# Altium footprint library RCDQLY.PCBLIB: 149 footprints (part 3 of 10)
Each footprint in its own frame and in the unit in brackets; x right, y up, seen from the top. Pads: shape width x height; smd on the part's side, far side on the other; paste and mask are expansions set on the pad; w line width, h text height; cw(c..) or ccw(c..) is an arc to the next point about the centre after c.
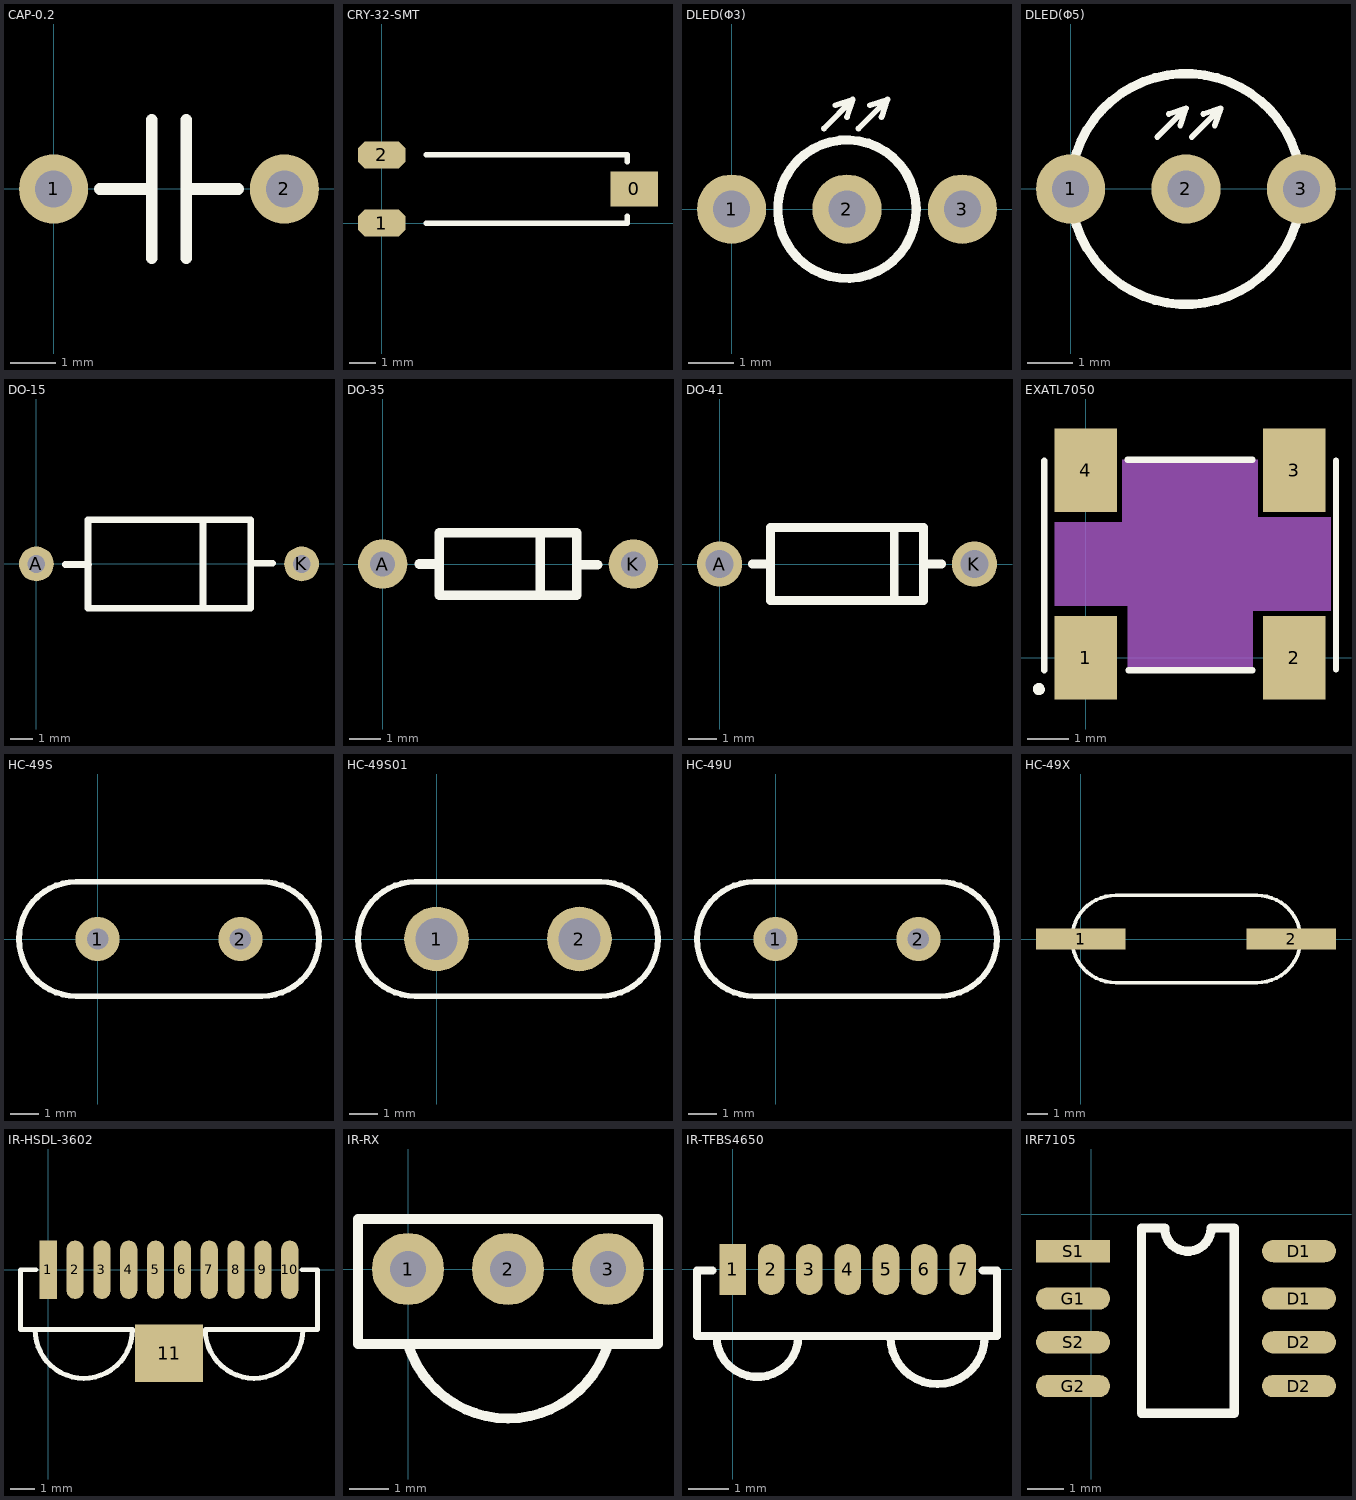
[diagram p2: the footprints below, top view; thin cyan lines are the x and y axes]

## CAP-0.2 [mil]
pads (2):
  round 60 hole 32: 1(0,0) 2(200,0)
TopOverlay:
  lines w10: 40,0 85,0 ; 85,-60 85,60 ; 115,-60 115,60 ; 115,0 160,0

## CRY-32-SMT [mil]
pads (3):
  rect 70x52 smd: 0(370,50)
  oct 70x40 smd: 1(0,0) 2(0,100)
TopOverlay:
  lines w8: 65,0 360,0 360,10 ; 65,100 360,100 360,90

## DLED(Φ3) [mil]
pads (3):
  round 60 hole 32: 1(0,0) 2(100,0) 3(200,0)
TopOverlay:
  circle w8: c100,0 r60
  lines w5: 80,70 105,95 ; 90,90 105,95 ; 100,80 105,95 ; 110,70 135,95 ; 120,90 135,95 ; 130,80 135,95

## DLED(Φ5) [mil]
pads (3):
  round 60 hole 32: 1(0,0) 2(100,0) 3(200,0)
TopOverlay:
  circle w8: c100,0 r100
  lines w5: 75,45 100,70 ; 85,65 100,70 ; 95,55 100,70 ; 105,45 130,70 ; 115,65 130,70 ; 125,55 130,70

## DO-15 [mil]
pads (2):
  round 62 hole 31.5: A(0,0) K(472.44,0)
TopOverlay:
  lines w12: 51.18,-1 93,-1 ; 92,-78.74 381.89,-78.74 ; 92,-78 92,78.48 ; 92,78.74 381.89,78.74 ; 297,-78.74 297,78.74 ; 382,-79 382,78.48 ; 388,1 421.26,1

## DO-35 [mil]
pads (2):
  round 62 hole 31.5: A(0,0) K(314.96,0)
TopOverlay:
  lines w12: 46,0 71,0 ; 198,-39.37 198,39.37 ; 245,-1 270,-1 ; 71,-39.37 244,-39.37 244,39.37 71,39.37 71,-39.37

## DO-41 [mil]
pads (2):
  round 62 hole 38: A(0,0) K(350,0)
TopOverlay:
  lines w12: 45,0 70,0 ; 240,-50 240,50 ; 280,0 305,0 ; 70,-50 70,50 280,50 280,-50 70,-50

## EXATL7050 [mil]
height 52.36
pads (4):
  rect 60x80 smd: 1(0,0) 2(200,0) 3(200,180) 4(0,180)
TopOverlay:
  lines w6: -43,-28 ccw(c-45,-30) -42.17,-30 ; -40,-12 -40,189 ; 40,190 160,190 ; 41,-12 160,-12 ; 240,-11 240,189
Mechanical1:
  pour cut-out: -30,130 -30,50 40,50 40,-11 160,-11 160,45 235,45 235,135 165,135 165,190 35,190 35,130
3D body: height 59.8, standoff 6.69, extent -30,-8 233,184
3D body: height 59.06, standoff 6.69, extent -38,-13 240,190

## HC-49S [mil]
pads (2):
  round 62 hole 30: 1(0,0) 2(200,0)
TopOverlay:
  lines w8: -30,-80 cw(c-30,0) -30,80 230,80 cw(c230,0) 230,-80 -30,-80

## HC-49S01 [mm]
pads (2):
  round 2.3 hole 1.5: 1(0,0) 2(5.08,0)
TopOverlay:
  lines w0.203: -0.762,-2.032 cw(c-0.762,0) -0.762,2.032 5.842,2.032 cw(c5.842,0) 5.842,-2.032 -0.762,-2.032

## HC-49U [mil]
pads (2):
  round 62 hole 30: 1(0,0) 2(200,0)
TopOverlay:
  lines w8: -30,-80 cw(c-30,0) -30,80 230,80 cw(c230,0) 230,-80 -30,-80

## HC-49X [mm]
pads (2):
  rect 4.3x1 smd: 1(0,0) 2(10.135,0)
TopOverlay:
  lines w0.178: 1.68,-2.1 cw(c1.68,0) 1.68,2.1 8.48,2.1 cw(c8.48,0) 8.48,-2.1 1.68,-2.1

## IR-HSDL-3602 [mm]
height 4.064
pads (11):
  rect 0.7x2.4 smd: 1(0,0)
  oval 0.7x2.4 smd: 2(1.1,0) 3(2.2,0) 4(3.3,0) 5(4.4,0) 6(5.5,0) 7(6.6,0) 8(7.7,0) 9(8.8,0) 10(9.9,0)
  rect 2.8x2.35 smd: 11(4.953,-3.429)
TopOverlay:
  lines w0.203: -0.546,-2.45 ccw(c1.454,-2.45) 3.454,-2.45 -1.143,-2.45 -1.143,0 -0.508,0 ; 10.408,0 11.043,0 11.043,-2.45 6.439,-2.45 ccw(c8.439,-2.45) 10.439,-2.45

## IR-RX [mil]
pads (3):
  round 72 hole 36: 1(0,0) 2(100,0) 3(200,0)
TopOverlay:
  lines w10: 0.44,-76.44 ccw(c100,-45) 199.56,-76.44 ; -50,-75 -50,50 250,50 250,-75 -50,-75

## IR-TFBS4650 [mil]
height 65
pads (7):
  rect 26x50 smd: 1(0,0)
  oval 26x50 smd: 2(37.4,0) 3(74.8,0) 4(112.2,0) 5(149.6,0) 6(187,0) 7(224.4,0)
TopOverlay:
  lines w8: -20,-1 -35,-1 -35,-65 258,-65 258,-1 244,-1 ; -16,-65 ccw(c24,-65) 64,-65 ; 154,-66 ccw(c200,-66) 246,-66

## IRF7105 [mil]
pads (8):
  oval 80x24 smd: D1(224.41,-91.18) D1(224.41,-40) D2(224.41,-185.67) D2(224.41,-138.43) G1(-19.68,-91.18) G2(-19.68,-185.67) S2(-19.68,-138.43)
  rect 80x24 smd: S1(-19.68,-40)
TopOverlay:
  lines w10: 54.39,-215.06 54.39,-15.06 79.39,-15.06 ccw(c104.39,-15.06) 129.39,-15.06 154.39,-15.06 154.39,-215.06 54.39,-215.06